# Altium footprint library Capacitors$.PcbLib: 48 footprints (part 2 of 3)
Each footprint in its own frame and in the unit in brackets; x right, y up, seen from the top. Pads: shape width x height; smd on the part's side, far side on the other; paste and mask are expansions set on the pad; w line width, h text height; cw(c..) or ccw(c..) is an arc to the next point about the centre after c.
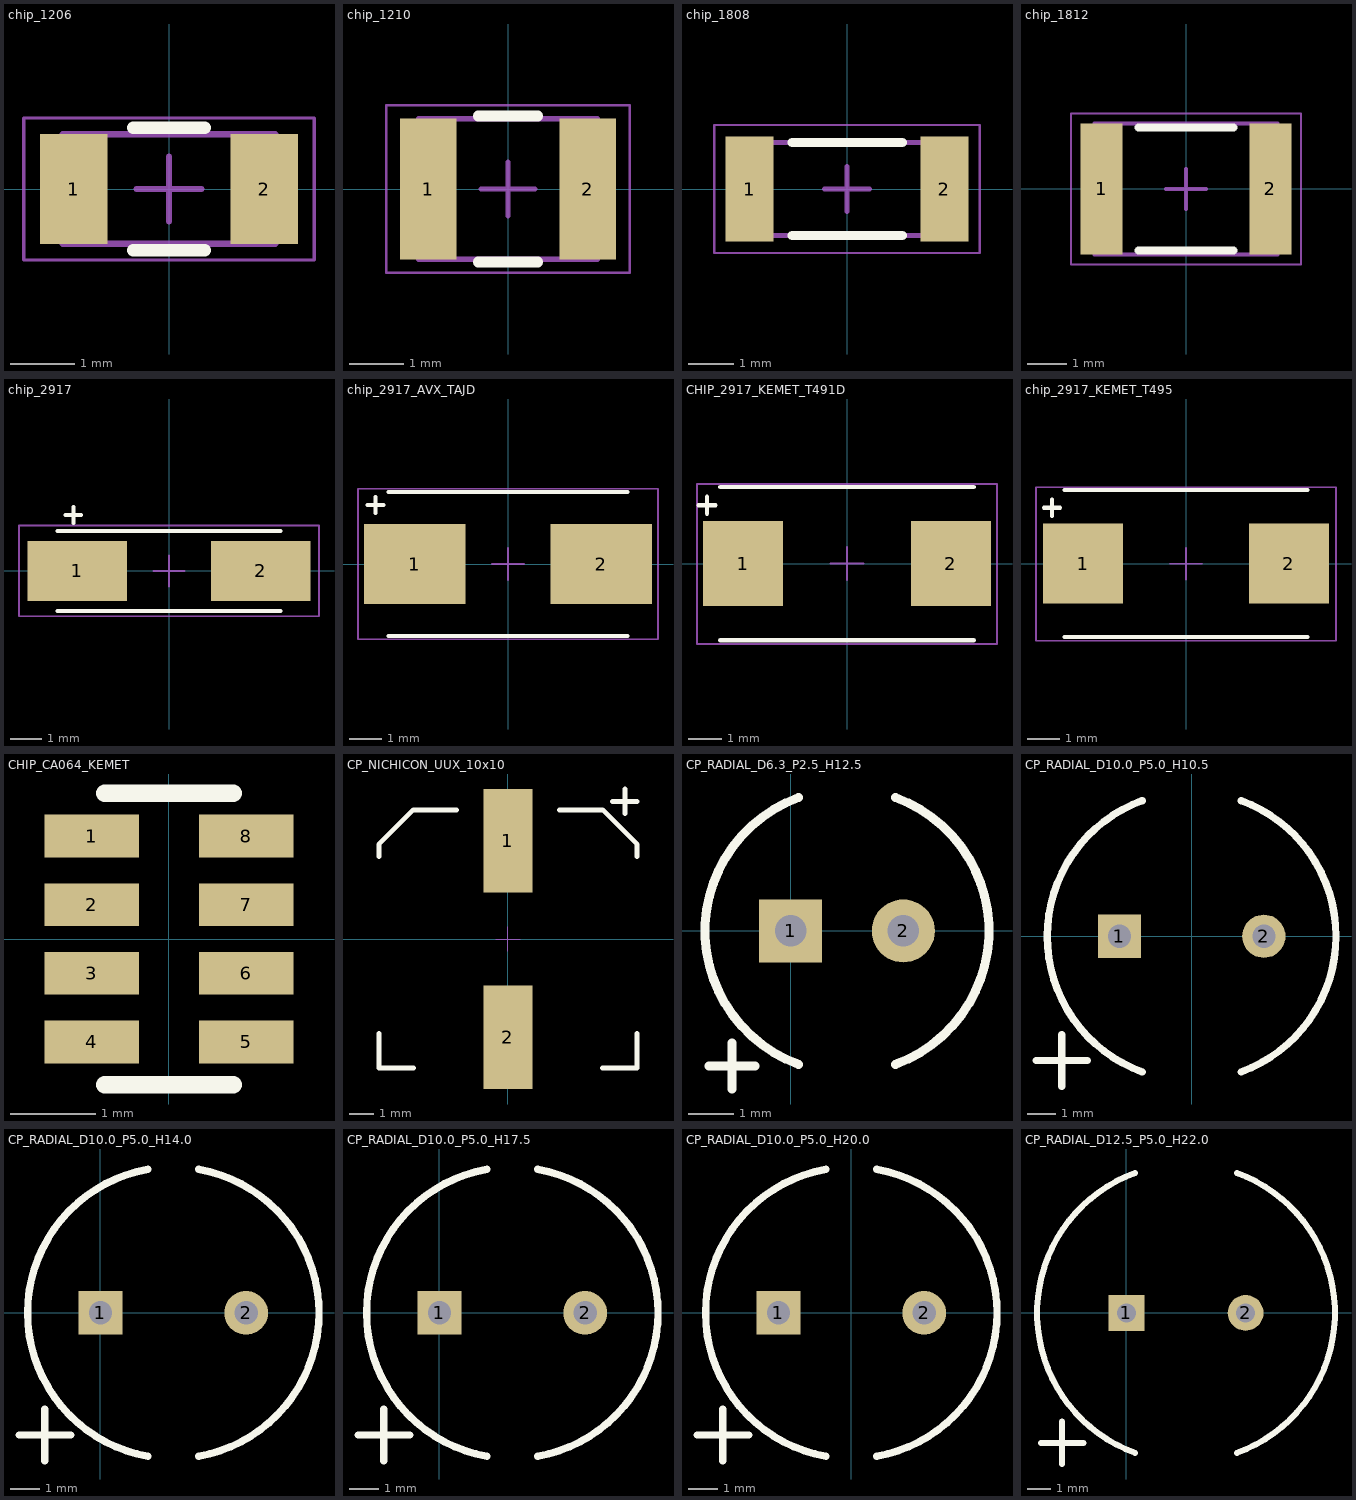
[diagram p1: the footprints below, top view; thin cyan lines are the x and y axes]

## chip_1206 [mm]
height 0.6
pads (2):
  rect 1.05x1.7 smd: 1(-1.475,0) 2(1.475,0)
Top Overlay:
  lines w0.2: -0.55,-0.95 0.55,-0.95 ; -0.55,0.95 0.55,0.95
Mechanical 13:
  lines w0.1: -1.65,-0.85 1.65,-0.85 1.65,0.85 -1.65,0.85 -1.65,-0.85
Mechanical 15:
  lines w0.05: -2.25,-1.1 2.25,-1.1 2.25,1.1 -2.25,1.1 -2.25,-1.1
  lines w0.1: -0.5,0 0.5,0 ; 0,-0.5 0,0.5
3D body: height 0.6, standoff 0, extent 1.15,-0.85 1.65,0.85
3D body: height 0.6, standoff 0, extent -1.65,-0.85 -1.15,0.85
3D body: height 0.6, standoff 0, extent -1.15,-0.85 1.15,0.85

## chip_1210 [mm]
height 0.6
pads (2):
  rect 1.05x2.6 smd: 1(-1.475,0) 2(1.475,0)
Top Overlay:
  lines w0.2: -0.55,-1.35 0.55,-1.35 ; -0.55,1.35 0.55,1.35
Mechanical 13:
  lines w0.1: -1.65,-1.3 -1.65,1.3 1.65,1.3 1.65,-1.3 -1.65,-1.3
Mechanical 15:
  lines w0.05: -2.25,-1.55 -2.25,1.55 2.25,1.55 2.25,-1.55 -2.25,-1.55
  lines w0.1: -0.5,0 0.5,0 ; 0,-0.5 0,0.5
3D body: height 0.6, standoff 0, extent -1.15,-1.3 1.15,1.3
3D body: height 0.6, standoff 0, extent -1.65,-1.3 -1.15,1.3
3D body: height 0.6, standoff 0, extent 1.15,-1.3 1.65,1.3

## chip_1808 [mm]
pads (2):
  rect 1.05x2.3 smd: 1(-2.125,0) 2(2.125,0)
Top Overlay:
  lines w0.2: -1.194,-1.016 1.206,-1.016 ; -1.194,1.016 1.206,1.016
Mechanical 13:
  lines w0.1: -2.3,-1.016 -2.3,1.016 2.3,1.016 2.3,-1.016 -2.3,-1.016
Mechanical 15:
  lines w0.05: -2.9,-1.397 -2.9,1.397 2.9,1.397 2.9,-1.397 -2.9,-1.397
  lines w0.1: -0.5,0 0.5,0 ; 0,-0.5 0,0.5
3D body: height 0.6, standoff 0, extent -1.8,-1.016 1.8,1.016
3D body: height 0.6, standoff 0, extent -2.3,-1.016 -1.8,1.016
3D body: height 0.6, standoff 0, extent 1.8,-1.016 2.3,1.016

## chip_1812 [mm]
height 0.6
pads (2):
  rect 1.05x3.3 smd: 1(-2.125,0) 2(2.125,0)
Top Overlay:
  lines w0.2: -1.2,-1.55 1.2,-1.55 ; -1.2,1.55 1.2,1.55
Mechanical 13:
  lines w0.1: -2.3,-1.65 2.3,-1.65 2.3,1.65 -2.3,1.65 -2.3,-1.65
Mechanical 15:
  lines w0.05: -2.9,-1.9 2.9,-1.9 2.9,1.9 -2.9,1.9 -2.9,-1.9
  lines w0.1: -0.5,0 0.5,0 ; 0,-0.5 0,0.5
3D body: height 0.6, standoff 0, extent 1.8,-1.65 2.3,1.65
3D body: height 0.6, standoff 0, extent -2.3,-1.65 -1.8,1.65
3D body: height 0.6, standoff 0, extent -1.8,-1.65 1.8,1.65

## chip_2917 [mil]
pads (2):
  rect 125x75 smd: 1(-115,0) 2(115,0)
Top Overlay:
  lines w5: -140,-50 140,-50 ; -140,50 140,50 ; -130,70 -110,70 ; -120,60 -120,80
Mechanical 15:
  lines w1.97: -19.68,0 19.69,0 ; 0,-19.69 0,19.68 ; -188,-57 -188,57 188,57 188,-57 -188,-57
3D body: height 118.11, standoff 0, extent -140,-47 140,47

## chip_2917_AVX_TAJD [mm] "2917 footprint for AVX TAJD"
pads (2):
  rect 3.175x2.5 smd: 1(-2.921,0) 2(2.921,0)
Top Overlay:
  lines w0.127: -4.404,1.85 -3.896,1.85 ; -4.15,1.596 -4.15,2.104 ; -3.75,-2.25 3.75,-2.25 ; -3.75,2.25 3.75,2.25
Mechanical 15:
  lines w0.05: -0.5,0 0.5,0 ; 0,-0.5 0,0.5 ; -4.699,-2.362 4.699,-2.362 4.699,2.362 -4.699,2.362 -4.699,-2.362
3D body "TAJD.step": height 3.15, standoff 0, extent -3.746,-2.248 3.746,2.248

## CHIP_2917_KEMET_T491D [mm] "2917 footprint for KEMET T491D"
pads (2):
  rect 2.4x2.55 smd: 1(-3.12,0) 2(3.12,0)
Top Overlay:
  lines w0.127: -4.454,1.75 -3.946,1.75 ; -4.2,1.496 -4.2,2.004 ; -3.8,-2.3 3.8,-2.3 ; -3.8,2.3 3.8,2.3
Mechanical 15:
  lines w0.05: -0.5,0 0.5,0 ; 0,-0.5 0,0.5 ; -4.5,-2.413 -4.5,2.388 4.5,2.388 4.5,-2.413 -4.5,-2.413
3D body "T491D227K016AT.step": height 3.11, standoff 0, extent -3.795,-2.3 3.805,2.3

## chip_2917_KEMET_T495 [mm] "2917 footprint for AVX TAJD"
pads (2):
  rect 2.5x2.5 smd: 1(-3.226,0) 2(3.226,0)
Top Overlay:
  lines w0.127: -4.454,1.75 -3.946,1.75 ; -4.2,1.496 -4.2,2.004 ; -3.8,-2.3 3.8,-2.3 ; -3.8,2.3 3.8,2.3
Mechanical 15:
  lines w0.05: -0.5,0 0.5,0 ; 0,-0.5 0,0.5 ; -4.699,-2.413 -4.699,2.388 4.699,2.388 4.699,-2.413 -4.699,-2.413
3D body "KEMET_T495.step": height 3.11, standoff 0, extent -3.8,-2.31 3.8,2.29

## CHIP_CA064_KEMET [mm]
pads (8):
  rect 1.1x0.5 smd mask+0.075: 1(-0.9,1.2) 2(-0.9,0.4) 3(-0.9,-0.4) 4(-0.9,-1.2) 5(0.9,-1.2) 6(0.9,-0.4) 7(0.9,0.4) 8(0.9,1.2)
Top Overlay:
  lines w0.2: -0.75,-1.7 0.75,-1.7 ; -0.75,1.7 0.75,1.7
3D body: height 1.02, standoff 0, extent 0,0 0,0
3D body: height 0.8, standoff 0, extent -0.8,-1.6 0.8,1.6
3D body: height 0.82, standoff 0, extent -0.85,-1.425 -0.55,-0.975
3D body: height 0.82, standoff 0, extent 0.55,-1.425 0.85,-0.975
3D body: height 0.82, standoff 0, extent 0.55,0.975 0.85,1.425
3D body: height 0.82, standoff 0, extent -0.85,-0.625 -0.55,-0.175
3D body: height 0.82, standoff 0, extent 0.55,-0.625 0.85,-0.175
3D body: height 0.82, standoff 0, extent 0.55,0.175 0.85,0.625
3D body: height 0.82, standoff 0, extent -0.85,0.975 -0.55,1.425
3D body: height 0.82, standoff 0, extent -0.85,0.175 -0.55,0.625

## CP_NICHICON_UUX_10x10 [mm] "Nichicon UUX Series 10x10 SMD capacitor"
pads (2):
  rect 2x4.2 smd: 1(0,4) 2(0,-4)
Top Overlay:
  lines w0.2: -5.25,-3.85 -5.25,-5.25 -3.85,-5.25 ; -5.25,3.35 -5.25,3.85 -3.85,5.25 -2.1,5.25 ; 2.1,5.25 3.85,5.25 5.25,3.85 5.25,3.35 ; 3.85,-5.25 5.25,-5.25 5.25,-3.85 ; 4.25,5.6 5.25,5.6 ; 4.75,5.1 4.75,6.1
Mechanical 15:
  lines w0.05: -0.5,0 0.5,0 ; 0,-0.5 0,0.5
3D body "PCAP_10x10-ELECT-M.step": height 10.54, standoff 0, extent -5.245,-5.601 5.245,5.601

## CP_RADIAL_D6.3_P2.5_H12.5 [mm] "Radial Cap, 2.5mm spacing, 6.3mm diameter, 12.5mm height"
height 20
pads (2):
  rect 1.4x1.4 hole 0.7: 1(0,0)
  round 1.4 hole 0.7: 2(2.5,0)
Top Overlay:
  lines w0.2: -1.808,-3 -0.792,-3 ; -1.3,-3.508 -1.3,-2.492 ; 0.173,-2.96 cw(c1.25,0) 0.173,2.96 ; 2.327,-2.96 ccw(c1.25,0) 2.327,2.96
3D body: height 12.5, standoff 0, extent -1.9,-3.147 4.4,3.147

## CP_RADIAL_D10.0_P5.0_H10.5 [mm] "2 Leaded Al Cap, 5mm spacing, 10.0mm diameter"
height 20
pads (2):
  rect 1.5x1.5 hole 0.8: 1(-2.5,0)
  round 1.5 hole 0.8: 2(2.5,0)
Top Overlay:
  lines w0.254: -5.389,-4.3 -3.611,-4.3 ; -4.5,-5.189 -4.5,-3.411 ; -1.71,-4.698 cw(c0,0) -1.71,4.698 ; 1.71,-4.698 ccw(c0,0) 1.71,4.698
3D body: height 10.5, standoff 0, extent -5,-5 5,5

## CP_RADIAL_D10.0_P5.0_H14.0 [mm] "2 Leaded Al Cap, 5mm spacing, 10mm diameter"
height 20
pads (2):
  rect 1.5x1.5 hole 0.8: 1(0,0)
  round 1.5 hole 0.8: 2(5,0)
Top Overlay:
  lines w0.254: -2.794,-4.191 -1.016,-4.191 ; -1.905,-5.08 -1.905,-3.302 ; 1.632,-4.924 cw(c2.5,0) 1.632,4.924 ; 3.368,-4.924 ccw(c2.5,0) 3.368,4.924
3D body: height 12.5, standoff 0, extent -2.46,-5 7.54,5
3D body: height 0.25, standoff -26.8, extent -2.54,0 -2.54,0

## CP_RADIAL_D10.0_P5.0_H17.5 [mm] "2 Leaded Al Cap, 5mm spacing, 10mm diameter"
height 20
pads (2):
  rect 1.5x1.5 hole 0.8: 1(0,0)
  round 1.5 hole 0.8: 2(5,0)
Top Overlay:
  lines w0.254: -2.794,-4.191 -1.016,-4.191 ; -1.905,-5.08 -1.905,-3.302 ; 1.632,-4.924 cw(c2.5,0) 1.632,4.924 ; 3.368,-4.924 ccw(c2.5,0) 3.368,4.924
3D body: height 0.25, standoff -26.8, extent -2.54,0 -2.54,0
3D body: height 17.5, standoff 0, extent -2.46,-5 7.54,5

## CP_RADIAL_D10.0_P5.0_H20.0 [mm] "2 Leaded Al Cap, 5mm spacing, 10mm diameter, 20mm Height"
height 20
pads (2):
  rect 1.5x1.5 hole 0.8: 1(-2.5,0)
  round 1.5 hole 0.8: 2(2.5,0)
Top Overlay:
  lines w0.254: -5.294,-4.191 -3.516,-4.191 ; -4.405,-5.08 -4.405,-3.302 ; -0.868,-4.924 cw(c0,0) -0.868,4.924 ; 0.868,-4.924 ccw(c0,0) 0.868,4.924
3D body: height 20, standoff 0, extent -4.96,-5 5.04,5

## CP_RADIAL_D12.5_P5.0_H22.0 [mm] "2 Leaded Al Cap, 5mm spacing, 12.5mm diameter"
height 20
pads (2):
  rect 1.5x1.5 hole 0.8: 1(0,0)
  round 1.5 hole 0.8: 2(5,0)
Top Overlay:
  lines w0.254: -3.589,-5.45 -1.811,-5.45 ; -2.7,-6.339 -2.7,-4.561 ; 0.362,-5.873 cw(c2.5,0) 0.362,5.873 ; 4.638,-5.873 ccw(c2.5,0) 4.638,5.873
3D body: height 22, standoff 0, extent -3.75,-6.247 8.75,6.247